# Altium schematic symbol library Schottky_2CHAN.SchLib: 1 symbol
Pins are listed as number, name and electrical type; pins without a type are passive.

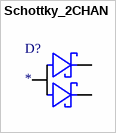
[diagram p0: symbol Schottky_2CHAN]

## Schottky_2CHAN
designator D?
Value: *
pins: 1 K, 2 K, 3 A